# Altium footprint library new-version.PcbLib: 241 footprints (part 3 of 16)
Each footprint in its own frame and in the unit in brackets; x right, y up, seen from the top. Pads: shape width x height; smd on the part's side, far side on the other; paste and mask are expansions set on the pad; w line width, h text height; cw(c..) or ccw(c..) is an arc to the next point about the centre after c.
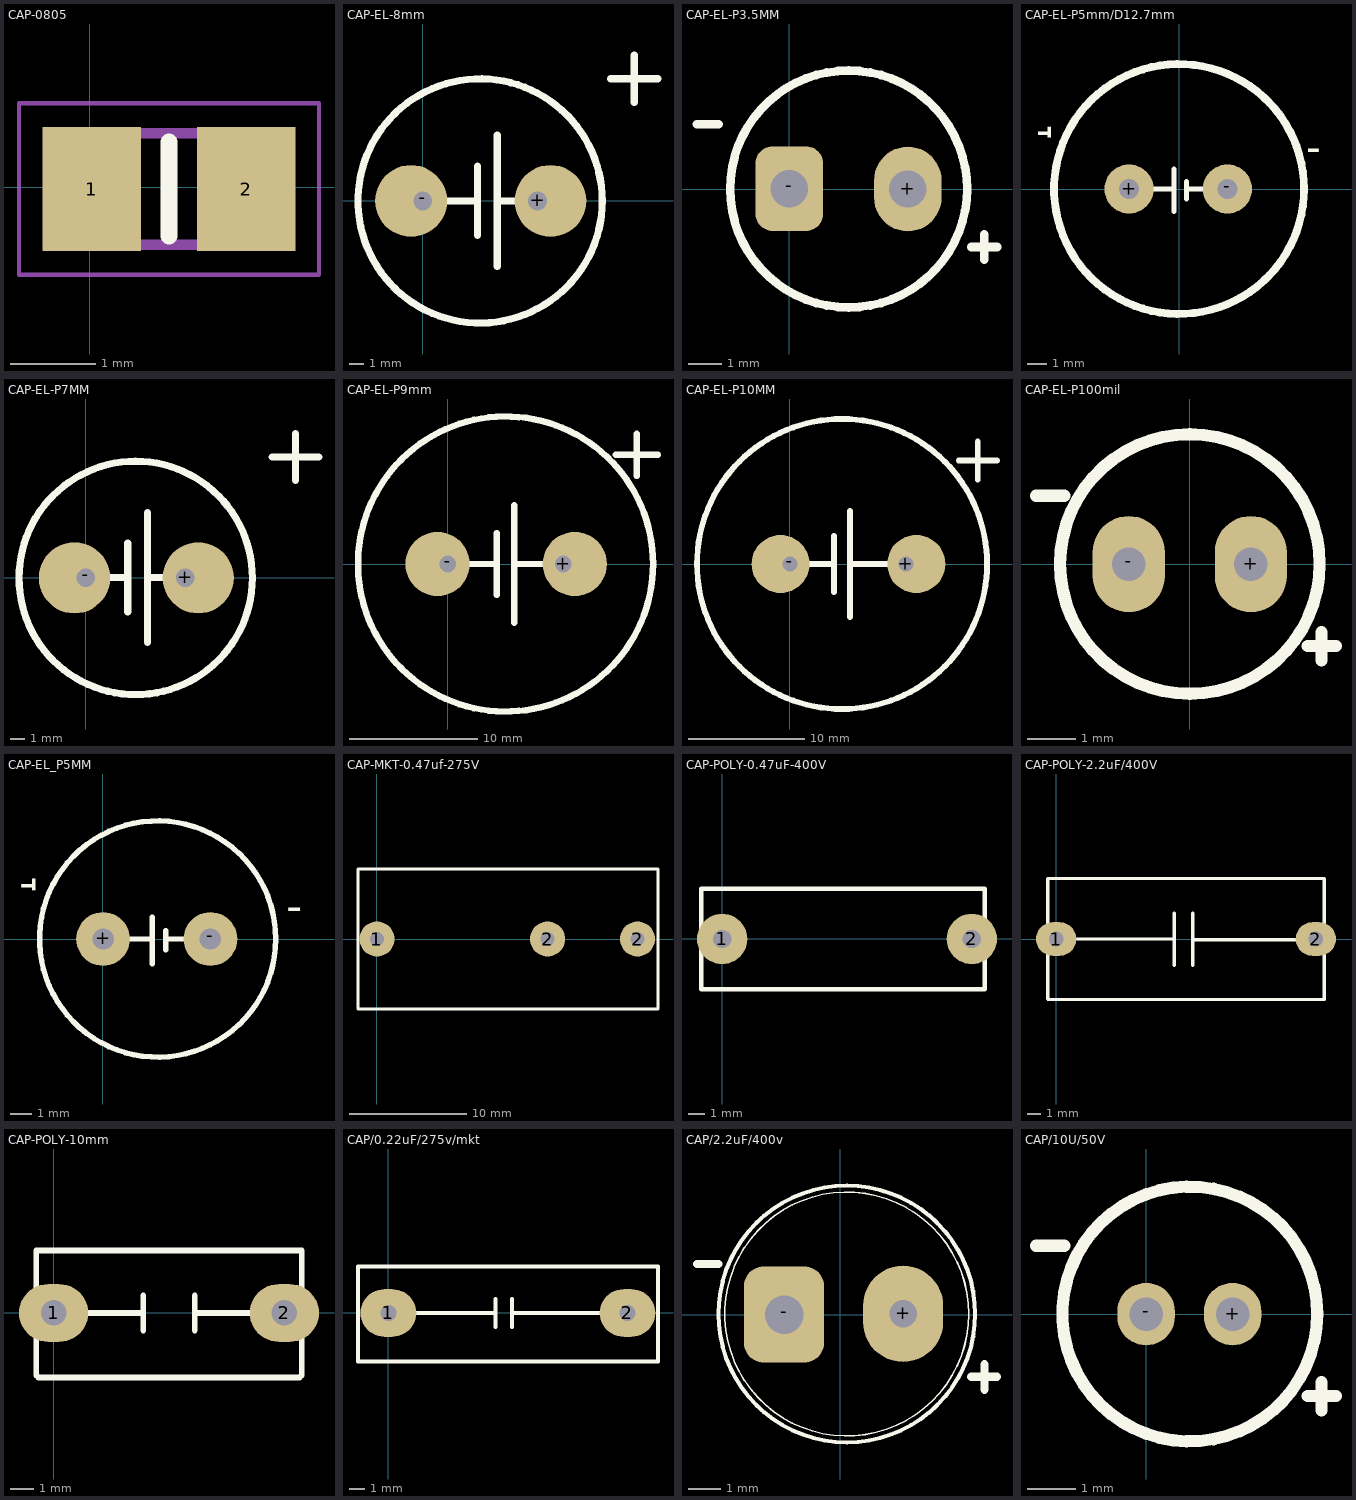
[diagram p2: the footprints below, top view; thin cyan lines are the x and y axes]

## CAP-0805 [mm]
pads (2):
  rect 1.15x1.45 smd: 1(0.025,-0.022) 2(1.825,-0.022)
Top Overlay:
  lines w0.2: 0.925,-0.572 0.925,0.528
Mechanical 13:
  region: 1.925,-0.672 1.425,-0.672 1.425,0.628 1.925,0.628
  region: 0.425,-0.672 -0.075,-0.672 -0.075,0.628 0.425,0.628
  lines w0.127: -0.075,-0.672 -0.075,0.628 1.925,0.628 1.925,-0.672 -0.075,-0.672
Mechanical 15:
  lines w0.05: -0.825,-1.022 -0.825,0.978 2.675,0.978 2.675,-1.022 -0.825,-1.022
3D body "CAP-0805.STEP": height 0.94, standoff 0, extent -0.166,-0.707 1.844,0.543

## CAP-EL-8mm [mm]
pads (2):
  round 5 hole 1.3 copper offset 0.9,0: +(8,0)
  round 5 hole 1.3 copper offset -0.8,0: -(0,0)
Top Overlay:
  circle w0.5: c4,0 r8.5
  lines w0.5: 0,0 3.81,0 ; 3.81,-2.413 3.81,0 ; 3.81,2.413 3.81,0 ; 5.19,-4.572 5.19,0 ; 5.19,4.572 5.19,0 ; 9,0 5.19,0 ; 13.081,8.509 16.383,8.509 ; 14.732,6.858 14.732,10.16

## CAP-EL-P3.5MM [mm]
pads (2):
  oval 2x2.5 hole 1.1: +(3.5,0)
  rrect50% 2x2.5 hole 1.1: -(0,0.01)
Top Overlay:
  circle w0.254: c1.75,0 r3.5
  lines w0.254: -2.728,1.917 -2.093,1.917 ; 5.373,-1.713 6.135,-1.713 ; 5.754,-2.094 5.754,-1.332
3D body "CAP-EL-P100M.STEP": height 11.5, standoff -17, extent -2.25,-4 5.75,4

## CAP-EL-P5mm/D12.7mm [mm]
pads (2):
  round 2.5 hole 1: +(-2.54,0) -(2.46,0)
Top Overlay:
  circle w0.4: c0,0 r6.35
  lines w0.254: -2.159,0 -0.254,0 ; -0.254,-1.143 -0.254,0 ; -0.254,1.016 -0.254,0 ; 0.381,-0.508 0.381,0.381 0.381,0 ; 0.381,-0.064 0.381,0 ; 2.841,0 0.381,0
  text "-" at 6.452,1.397 h1.52
  text "-" at -7.269,2.258 h1.52
  text "-" at -6,2.51 h1.52

## CAP-EL-P7MM [mm]
pads (2):
  round 5 hole 1.3 copper offset 0.9,0: +(7,0)
  round 5 hole 1.3 copper offset -0.8,0: -(0,0)
Top Overlay:
  circle w0.5: c3.5,0 r8.2
  lines w0.5: 0.025,0.025 2.946,0.025 ; 2.946,-2.388 2.946,0.025 ; 2.946,2.438 2.946,0.025 ; 4.326,-4.547 4.326,0.025 ; 4.326,4.597 4.326,0.025 ; 8.136,0.025 4.326,0.025 ; 13.081,8.509 16.383,8.509 ; 14.732,6.858 14.732,10.16

## CAP-EL-P9mm [mm]
pads (2):
  round 5 hole 1.3 copper offset 0.9,0: +(9,0)
  round 5 hole 1.3 copper offset -0.8,0: -(0,0)
Top Overlay:
  circle w0.5: c4.5,0 r11.5
  lines w0.5: 0,0 3.81,0 ; 3.81,-2.413 3.81,0 ; 3.81,2.413 3.81,0 ; 5.19,-4.572 5.19,0 ; 5.19,4.572 5.19,0 ; 9,0 5.19,0 ; 13.081,8.509 16.383,8.509 ; 14.732,6.858 14.732,10.16

## CAP-EL-P10MM [mm]
pads (2):
  round 5 hole 1.3 copper offset 0.9,0: +(10,0)
  round 5 hole 1.3 copper offset -0.8,0: -(0,0)
Top Overlay:
  circle w0.5: c4.5,0 r12.5
  lines w0.5: 0,0 3.81,0 ; 3.81,-2.413 3.81,0 ; 3.81,2.413 3.81,0 ; 5.19,-4.572 5.19,0 ; 5.19,4.572 5.19,0 ; 9,0 5.19,0 ; 14.554,8.915 17.856,8.915 ; 16.205,7.264 16.205,10.566

## CAP-EL-P100mil [mm]
pads (2):
  oval 1.5x2 hole 0.7: +(1.27,-0.002) -(-1.27,-0.002)
Top Overlay:
  circle w0.254: c0,0 r2.7
  lines w0.254: -3.2,1.419 -2.611,1.419 ; 2.451,-1.707 3.041,-1.707 ; 2.739,-2.009 2.739,-1.42

## CAP-EL_P5MM [mm]
pads (2):
  round 2.5 hole 1: +(0.01,0.01) -(5.01,0.01)
Top Overlay:
  circle w0.254: c2.55,0.01 r5.5
  lines w0.254: 0.391,0.01 2.296,0.01 ; 2.296,-1.133 2.296,0.01 ; 2.296,1.026 2.296,0.01 ; 2.931,-0.498 2.931,0.391 2.931,0.01 ; 2.931,-0.054 2.931,0.01 ; 5.391,0.01 2.931,0.01
  text "-" at -2.637,2.164 h1.52
  text "-" at -3.906,1.912 h1.52
  text "-" at 8.54,0.805 h1.52
3D body "CAP_EL_P5MM.STEP": height 16, standoff -17, extent -2.48,-4.859 7.52,5.139

## CAP-MKT-0.47uf-275V [mm]
pads (3):
  round 3 hole 1.2: 1(0,0) 2(14.6,0) 2(22.3,0)
Top Overlay:
  lines w0.254: -1.626,-6 -1.626,6 24.054,6 24.054,-6 -1.626,-6

## CAP-POLY-0.47uF-400V [mm]
pads (2):
  round 3 hole 1.1: 1(0,0) 2(14.9,0)
Top Overlay:
  lines w0.254: -1.245,-3 15.672,-3 15.672,2.997 -1.245,2.997 -1.245,-3

## CAP-POLY-2.2uF/400V [mm]
pads (2):
  oval 3x2.5 hole 1.1: 1(0,0) 2(19.3,0)
Top Overlay:
  lines w0.254: 1.016,0 8.763,0 8.763,1.905 ; 8.763,-1.968 8.763,-0.064 ; 10.16,-1.968 10.16,-0.064 17.907,-0.064 ; 10.16,0 10.16,1.905 ; 19.935,0 19.935,-4.5 ; 19.935,-4.5 19.939,-4.496 19.939,4.5 19.122,4.5 -0.635,4.5 -0.635,0 -0.635,-4.445 -0.58,-4.5 19.935,-4.5

## CAP-POLY-10mm [mm]
pads (2):
  oval 3x2.5 hole 1.1: 1(0,0) 2(10,0)
Top Overlay:
  lines w0.254: 0,0 3.886,0 ; 3.886,-0.762 3.886,0 ; 3.886,0.762 3.886,0 ; 6.114,-0.762 6.114,0 ; 6.114,0.762 6.114,0 ; 10,0 6.114,0 ; -0.75,-2.7 -0.656,-2.794 10.656,-2.794 10.75,-2.7 10.75,2.7 -0.75,2.7 -0.75,-2.7

## CAP/0.22uF/275v/mkt [mm]
pads (2):
  oval 3.5x3 hole 1: 1(0,0) 2(15,0)
Top Overlay:
  lines w0.254: 0.762,0 6.731,0 ; 6.731,-0.889 6.731,0 ; 6.731,0.889 6.731,0 ; 7.747,-0.889 7.747,0.889 ; 7.874,0 14.859,0 ; -1.906,-3.048 -1.906,2.921 16.914,2.921 16.914,-3.048 -1.906,-3.048
3D body "mkt-0.22hf-275v..stp": height 11.5, standoff -2.5, extent -0.943,-3.048 16.057,2.952

## CAP/2.2uF/400v [mm]
pads (2):
  oval 2.5x3 hole 0.85: +(1.961,0.022)
  rrect50% 2.5x3 hole 1.2: -(-1.75,0)
Top Overlay:
  circle w0.127: c0.206,0.017 r4
  circle w0.05: c0.206,0.017 r3.8
  lines w0.254: -4.461,1.578 -3.79,1.578 ; 4.086,-1.939 4.886,-1.939 ; 4.494,-2.345 4.494,-1.549
3D body "ECA-2GM2R2B.STEP": height 13.5, standoff -15, extent -3.815,-4.046 4.185,3.954

## CAP/10U/50V [mm]
pads (2):
  oval 1.2x1.3 hole 0.7: +(1.8,0) -(0,0)
Top Overlay:
  circle w0.254: c0.91,0.002 r2.65
  lines w0.254: -2.29,1.421 -1.701,1.421 ; 3.361,-1.705 3.95,-1.705 ; 3.648,-2.007 3.648,-1.418